# Altium footprint library 3-PIN-D2PAK.PcbLib: 1 footprints
Each footprint in its own frame and in the unit in brackets; x right, y up, seen from the top. Pads: shape width x height; smd on the part's side, far side on the other; paste and mask are expansions set on the pad; w line width, h text height; cw(c..) or ccw(c..) is an arc to the next point about the centre after c.
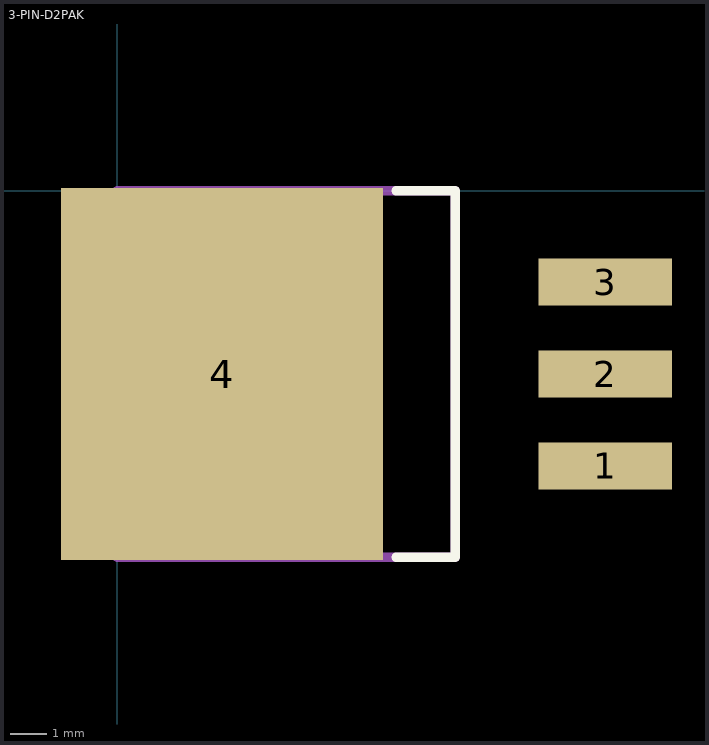
[diagram p0: the footprint, top view; thin cyan lines are the x and y axes]

## 3-PIN-D2PAK [mm]
pads (4):
  rect 3.7x1.3 smd: 1(13.5,-7.61) 2(13.5,-5.07) 3(13.5,-2.53)
  rect 8.9x10.3 smd: 4(2.9,-5.07)
L26-Silk Screen Top (Multiple PADS layers...):
  lines w0.254: 7.71,-10.14 9.35,-10.14 9.35,0 7.71,0
L15 (Multiple PADS layers...):
  lines w0.254: 0,-10.14 0,0 9.35,0 9.35,-10.14 0,-10.14